# Altium footprint library PCB-G-1.PcbLib: 23 footprints (part 2 of 2)
Each footprint in its own frame and in the unit in brackets; x right, y up, seen from the top. Pads: shape width x height; smd on the part's side, far side on the other; paste and mask are expansions set on the pad; w line width, h text height; cw(c..) or ccw(c..) is an arc to the next point about the centre after c.
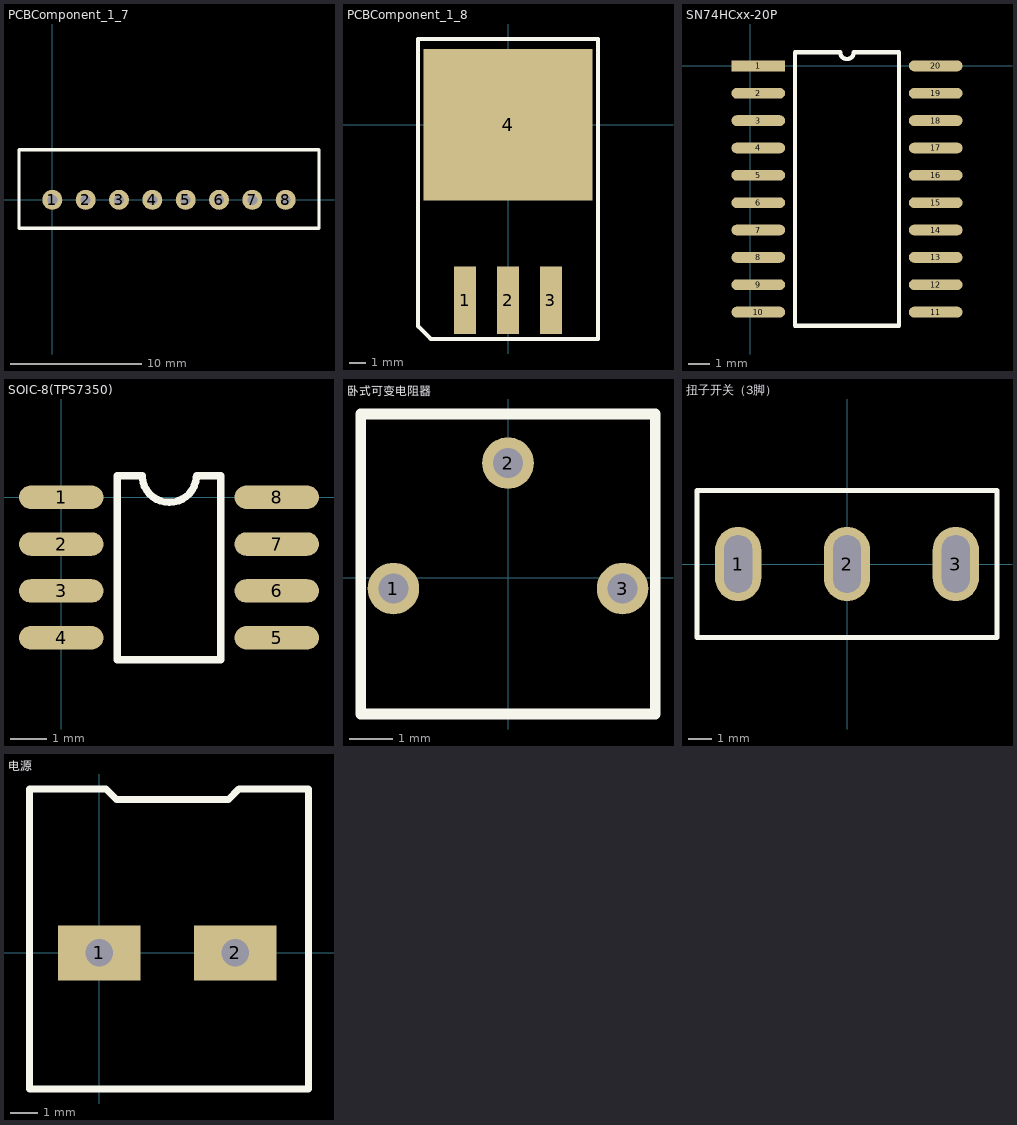
[diagram p1: the footprints below, top view; thin cyan lines are the x and y axes]

## PCBComponent_1_7 [mil]
pads (8):
  round 60 hole 30: 1(0,0) 2(100,0) 3(200,0) 4(300,0) 5(400,0) 6(500,0) 7(600,0) 8(700,0)
Top Overlay:
  lines w10: -100,-85 800,-85 800,150 -100,150 -100,-85

## PCBComponent_1_8 [mm]
pads (4):
  rect 1.3x4 smd: 1(-2.54,-10.414) 2(0,-10.414) 3(2.54,-10.414)
  rect 10x9 smd: 4(0,0)
Top Overlay:
  lines w0.254: -5.334,-11.938 -5.334,5.08 5.334,5.08 5.334,-12.7 -4.572,-12.7 -5.334,-11.938
3D body: height 3.81, standoff 0.03, extent -5.08,-5.715 5.08,3.429

## SN74HCxx-20P [mm]
pads (20):
  rect 2.5x0.5 smd: 1(0.381,0)
  oval 2.5x0.5 smd: 2(0.381,-1.27) 3(0.381,-2.54) 4(0.381,-3.81) 5(0.381,-5.08) 6(0.381,-6.35) 7(0.381,-7.62) 8(0.381,-8.89) 9(0.381,-10.16) 10(0.381,-11.43) 11(8.619,-11.43) 12(8.619,-10.16) 13(8.619,-8.89) 14(8.619,-7.62) 15(8.619,-6.35) 16(8.619,-5.08) 17(8.619,-3.81) 18(8.619,-2.54) 19(8.619,-1.27) 20(8.619,0)
Top Overlay:
  lines w0.2: 2.085,-12.065 2.085,0.635 4.182,0.635 ccw(c4.5,0.635) 4.817,0.635 6.915,0.635 6.915,-12.065 2.085,-12.065

## SOIC-8(TPS7350) [mil]
pads (8):
  oval 90x25 smd: 1(0,0) 2(0,-50) 3(0,-100) 4(0,-150) 5(230,-150) 6(230,-100) 7(230,-50) 8(230,0)
Top Overlay:
  lines w7.87: 86.33,23 60,23 60,-173.43 170,-173.43 170,23 144.76,23 ; 86.43,21.01 ccw(c115.33,23.43) 144.24,21.09

## 卧式可变电阻器 [mm]
pads (3):
  round 1.2 hole 0.7: 1(-2.667,-0.254) 2(0,2.667) 3(2.667,-0.254)
Top Overlay:
  lines w0.254: -3.429,-3.175 -3.429,3.81 3.429,3.81 3.429,-3.175 -3.429,-3.175

## 扭子开关（3脚） [mm]
pads (3):
  oval 2x3.2 hole 1.2 slot 2.5 at 90 deg: 1(-4.699,0) 2(0,0) 3(4.699,0)
Top Overlay:
  lines w0.2: -6.477,-3.175 -6.477,3.175 6.477,3.175 6.477,-3.175 -6.477,-3.175

## 电源 [mm]
pads (2):
  rect 3x2 hole 1: 1(0,0) 2(4.953,0)
Top Overlay:
  lines w0.254: -2.54,-4.953 -2.54,0.127 -2.54,5.969 0.254,5.969 0.635,5.588 4.699,5.588 5.08,5.969 7.62,5.969 7.62,-4.953 -2.54,-4.953